# EAGLE library part RJ45-RJHSE-X080 (library AIC_Custom)
Amphenol RJHSE-x080 RJ45 PCB Jack RJ45 8-pin connection PCB PTH connector, 90 degree and vertical mounting packages
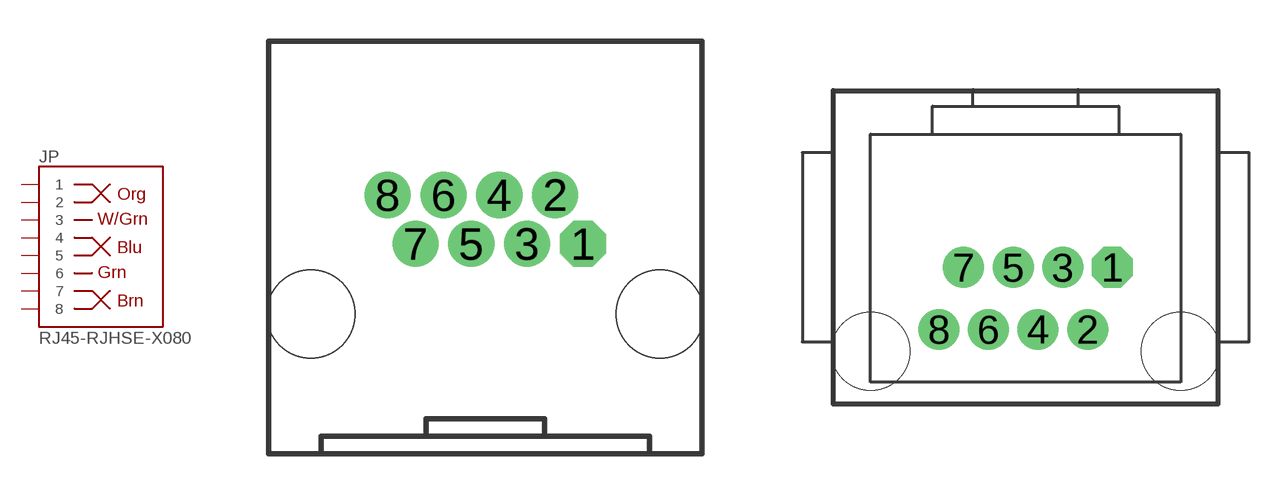
[diagram p6: symbol with the pads of RJ45-RJHSE-5080-90DEG; footprints RJ45-RJHSE-5080-90DEG, RJ45-RJHSE-3080-VERT]

Designator prefix JP

## RJ45-RJHSE-X08090DEG  [RJ45-RJHSE-5080-90DEG]
1  1
2  2
3  3
4  4
5  5
6  6
7  7
8  8

## RJ45-RJHSE-X080VERT  [RJ45-RJHSE-3080-VERT]
Pads as for RJ45-RJHSE-5080-90DEG

## Footprint RJ45-RJHSE-5080-90DEG (pad centres in mm)
Amphenol RJHSE-5080 RJ45 90 Degree PCB Socket
drill 0.9 pad 1.676 octagon: 1 3.556,2.54
drill 0.9 pad 1.676: 2 2.54,4.318; 3 1.524,2.54; 4 0.508,4.318; 5 -0.508,2.54; 6 -1.524,4.318; 7 -2.54,2.54; 8 -3.556,4.318
hole 3.2 at -6.35,0
hole 3.2 at 6.35,0

## Footprint RJ45-RJHSE-3080-VERT (pad centres in mm)
Amphenol RJHSE-3080 RJ45 Vertical PCB Socket
drill 0.9 pad 1.676 octagon: 1 3.556,3.429
drill 0.9 pad 1.676: 2 2.54,0.889; 3 1.524,3.429; 4 0.508,0.889; 5 -0.508,3.429; 6 -1.524,0.889; 7 -2.54,3.429; 8 -3.556,0.889
hole 3.2 at -6.35,0
hole 3.2 at 6.35,0